# Altium footprint library TPS613771RYHR.PcbLib: 2 footprints
Each footprint in its own frame and in the unit in brackets; x right, y up, seen from the top. Pads: shape width x height; smd on the part's side, far side on the other; paste and mask are expansions set on the pad; w line width, h text height; cw(c..) or ccw(c..) is an arc to the next point about the centre after c.
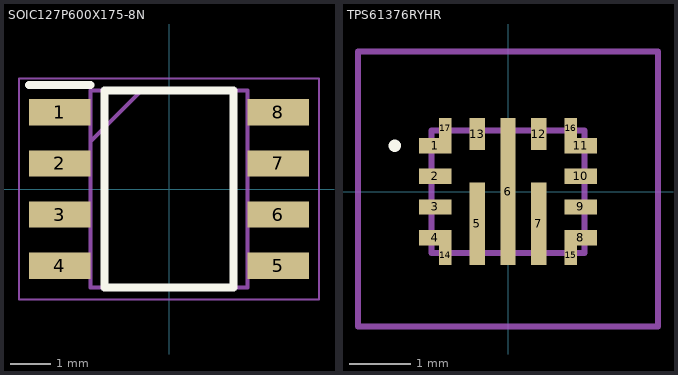
[diagram p0: the footprints below, top view; thin cyan lines are the x and y axes]

## SOIC127P600X175-8N [mm]
pads (8):
  rect 1.525x0.65 smd: 1(-2.712,1.905) 2(-2.712,0.635) 3(-2.712,-0.635) 4(-2.712,-1.905) 5(2.712,-1.905) 6(2.712,-0.635) 7(2.712,0.635) 8(2.712,1.905)
Top Overlay:
  lines w0.2: -3.475,2.58 -1.95,2.58 ; -1.6,-2.45 -1.6,2.45 1.6,2.45 1.6,-2.45 -1.6,-2.45
Mechanical 13:
  lines w0.1: -1.95,1.18 -0.68,2.45 ; -1.95,-2.45 -1.95,2.45 1.95,2.45 1.95,-2.45 -1.95,-2.45
Mechanical 15:
  lines w0.05: -3.725,-2.75 -3.725,2.75 3.725,2.75 3.725,-2.75 -3.725,-2.75
3D body "NE555DR.stp": height 1.75, standoff 0, extent -3,-2.45 3,2.45

## TPS61376RYHR [mm]
pads (17):
  rect 0.525x0.25 smd: 1(-1.188,0.75) 2(-1.188,0.25) 3(-1.188,-0.25) 4(-1.188,-0.75) 8(1.188,-0.75) 9(1.188,-0.25) 10(1.188,0.25) 11(1.188,0.75)
  rect 0.25x1.35 smd: 5(-0.5,-0.526) 7(0.5,-0.526)
  rect 0.25x2.4 smd: 6(0,0)
  rect 0.25x0.525 smd: 12(0.5,0.94) 13(-0.5,0.94)
  rect 0.2x0.325 smd: 14(-1.025,-1.038) 15(1.025,-1.038) 16(1.025,1.038) 17(-1.025,1.038)
Top Overlay:
  lines w0.1: -1.801,0.75 cw(c-1.85,0.75) -1.9,0.75 cw(c-1.85,0.75) -1.799,0.75
Mechanical 13:
  lines w0.1: -1.25,-1 -1.25,1 1.25,1 1.25,-1 -1.25,-1
Mechanical 15:
  lines w0.1: -2.45,-2.2 -2.45,2.288 2.45,2.288 2.45,-2.2 -2.45,-2.2
3D body "TPS613771RYHR.stp": height 1.05, standoff 0, extent -1.32,-1.03 1.32,1.11